# EAGLE library part BGM220SC22HNA (library BGM220S)
BGM220SC22HNA EFR32BG22 Series 2 Modules
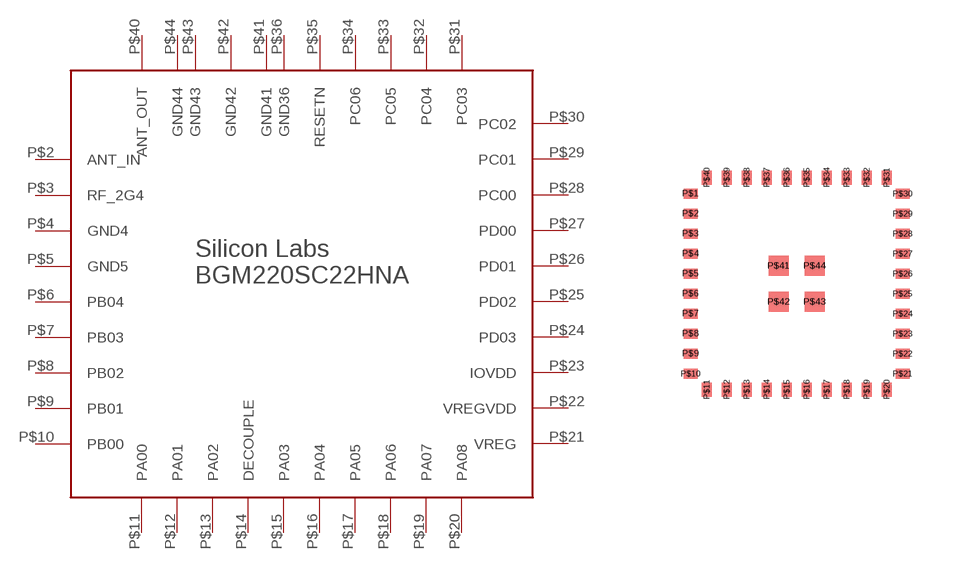
[diagram p0: symbol with the pads of BGM220SC22HNA; footprint BGM220SC22HNA]

Designator prefix -

## BGM220SC22HNA  [BGM220SC22HNA]
P$2  ANT_IN
P$3  RF_2G4
P$4  GND4
P$5  GND5
P$6  PB04
P$7  PB03
P$8  PB02
P$9  PB01
P$10  PB00
P$11  PA00
P$12  PA01
P$13  PA02
P$14  DECOUPLE
P$15  PA03
P$16  PA04
P$17  PA05
P$18  PA06
P$19  PA07
P$20  PA08
P$21  VREG
P$22  VREGVDD
P$23  IOVDD
P$24  PD03
P$25  PD02
P$26  PD01
P$27  PD00
P$28  PC00
P$29  PC01
P$30  PC02
P$31  PC03
P$32  PC04
P$33  PC05
P$34  PC06
P$35  RESETN
P$36  GND36
P$40  ANT_OUT
P$41  GND41
P$42  GND42
P$43  GND43
P$44  GND44

## Footprint BGM220SC22HNA (pad centres in mm)
smd 0.35 x 0.25: P$1 0,0; P$2 0,-0.5; P$3 0,-1; P$4 0,-1.5; P$5 0,-2; P$6 0,-2.5; P$7 0,-3; P$8 0,-3.5; P$9 0,-4; P$10 0,-4.5; P$21 5.3,-4.5; P$22 5.3,-4; P$23 5.3,-3.5; P$24 5.3,-3; P$25 5.3,-2.5; P$26 5.3,-2; P$27 5.3,-1.5; P$28 5.3,-1; P$29 5.3,-0.5; P$30 5.3,0
smd 0.25 x 0.35: P$11 0.4,-4.9; P$12 0.9,-4.9; P$13 1.4,-4.9; P$14 1.9,-4.9; P$15 2.4,-4.9; P$16 2.9,-4.9; P$17 3.4,-4.9; P$18 3.9,-4.9; P$19 4.4,-4.9; P$20 4.9,-4.9; P$31 4.9,0.4; P$32 4.4,0.4; P$33 3.9,0.4; P$34 3.4,0.4; P$35 2.9,0.4; P$36 2.4,0.4; P$37 1.9,0.4; P$38 1.4,0.4; P$39 0.9,0.4; P$40 0.4,0.4
smd 0.5 x 0.5: P$41 2.2,-1.8; P$42 2.2,-2.7; P$43 3.1,-2.7; P$44 3.1,-1.8